# EAGLE library part AP63205WU-7 (library AP63205WU-7)
Check availability <https://pricing.snapeda.com/parts/AP63205WU-7/Diodes%20Incorporated/view-part?ref=eda>
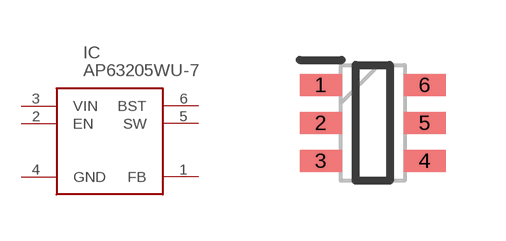
[diagram p0: symbol with the pads of SOT95P280X100-6N; footprint SOT95P280X100-6N]

Designator prefix IC

## AP63205WU-7 (Availability: In Stock; Check_prices: https://www.snapeda.com/parts/AP63205WU-7/Diodes+Inc./view-part/?ref=eda; Description: Buck Switching Regulator IC Positive Fixed 5V 1 Output 2A SOT-23-6 Thin, TSOT-23-6; MF: Diodes Incorporated; MP: AP63205WU-7; Package: SOT-23-6 Diodes Incorporated; Price: None; SnapEDA_Link: https://www.snapeda.com/parts/AP63205WU-7/Diodes+Inc./view-part/?ref=snap)  [SOT95P280X100-6N]
1  FB
2  EN
3  VIN
4  GND
5  SW
6  BST

## Footprint SOT95P280X100-6N (pad centres in mm)
AP63205WU-7-1
smd 1.05 x 0.55: 1 -1.3,0.95; 2 -1.3,0; 3 -1.3,-0.95; 4 1.3,-0.95; 5 1.3,0; 6 1.3,0.95